# EAGLE library part MICRO_SD_CARD_HOLDER (library Deegou_Connector)
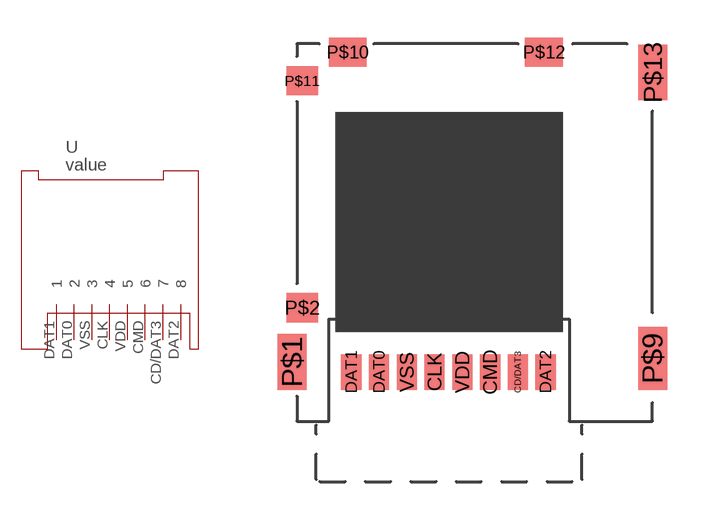
[diagram p3: symbol with the pads of MICRO_SD_CARD_HOLDER-8P; footprint MICRO_SD_CARD_HOLDER-8P]

Designator prefix -

## MICRO_SD_CARD_HOLDER  [MICRO_SD_CARD_HOLDER-8P]
CD/DAT3  7
CLK  4
CMD  6
DAT0  2
DAT1  1
DAT2  8
VDD  5
VSS  3

## Footprint MICRO_SD_CARD_HOLDER-8P (pad centres in mm)
smd 0.8 x 1.4: CD/DAT3 9.52,0.7; CLK 6.22,0.7; CMD 8.42,0.7; DAT0 4.02,0.7; DAT1 2.92,0.7; DAT2 10.62,0.7; VDD 7.32,0.7; VSS 5.12,0.7
smd 1.15 x 2.2: P$1 0.575,1.1; P$13 14.865,12.58
smd 1.25 x 1.16: P$2 0.98,3.25; P$11 0.98,12.25
smd 1.15 x 2.5: P$9 14.865,1.24
smd 1.5 x 1.15: P$10 2.78,13.375; P$12 10.56,13.375